# EAGLE library part SN754410 (library PiDemo_Parts)
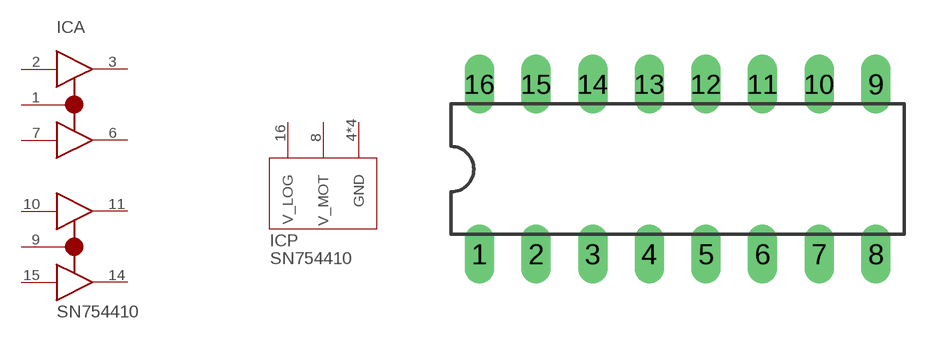
[diagram p2: symbol with the pads of DIL16; footprint DIL16]

Designator prefix IC; gates A=TWO_BRIDGES P=POWER_P

## SN754410  [DIL16]
1  A:1,2EN
2  A:1A
3  A:1Y
4  P:GND  pwr
5  P:GND  pwr
6  A:2Y
7  A:2A
8  P:V_MOT  pwr
9  A:3,4EN
10  A:3A
11  A:3Y
12  P:GND  pwr
13  P:GND  pwr
14  A:4Y
15  A:4A
16  P:V_LOG  pwr

## Footprint DIL16 (pad centres in mm)
Dual In Line Package
drill 0.813 long: 1 -8.89,-3.81; 2 -6.35,-3.81; 3 -3.81,-3.81; 4 -1.27,-3.81; 5 1.27,-3.81; 6 3.81,-3.81; 7 6.35,-3.81; 8 8.89,-3.81; 9 8.89,3.81; 10 6.35,3.81; 11 3.81,3.81; 12 1.27,3.81; 13 -1.27,3.81; 14 -3.81,3.81; 15 -6.35,3.81; 16 -8.89,3.81